# Altium schematic symbol library qol56-top.SchLib: 1 symbol
Pins are listed as number, name and electrical type; pins without a type are passive.

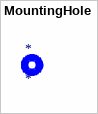
[diagram p0: symbol MountingHole]

## MountingHole
designator *